# EAGLE library part MAX941ESA+T (library U-Maxim-MAX941ESA-Comparator)
Comparator with Latch, Shutdown CMOS, Push-Pull, TTL 8-SOIC Manufacturer's datasheet <https://datasheets.maximintegrated.com/en/ds/MAX941-MAX944.pdf>
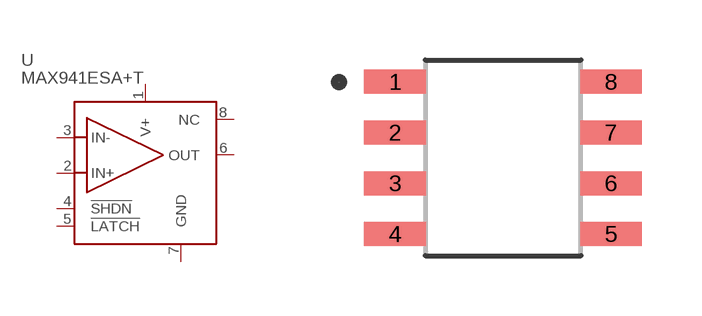
[diagram p0: symbol with the pads of 8-SOIC; footprint 8-SOIC]

Designator prefix U

## MAX941ESA+T (DESCRIPTION: Comparator with Latch, Shutdown CMOS, Push-Pull, TTL 8-SOIC; DIGIKEY_PART_NUMBER: MAX941ESA+TCT-ND; MANUFACTURER: Maxim Integrated; MANUFACTURER_PART_NUMBER: MAX941ESA+T)  [8-SOIC]
1  V+  pwr
2  IN+  in
3  IN-  in
4  !SHDN  in
5  !LATCH  in
6  OUT  out
7  GND  pwr
8  NC  nc

## Footprint 8-SOIC (pad centres in mm)
smd 1.55 x 0.6: 1 -2.7,1.905; 2 -2.7,0.635; 3 -2.7,-0.635; 4 -2.7,-1.905; 5 2.7,-1.905; 6 2.7,-0.635; 7 2.7,0.635; 8 2.7,1.905